# EAGLE library part MPC9804 (library MCP9804)
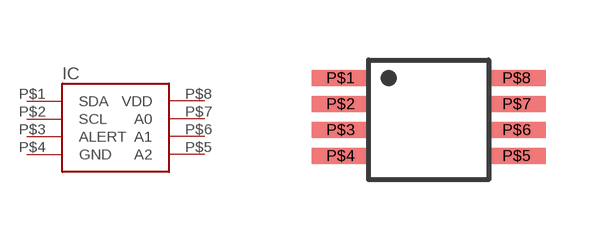
[diagram p0: symbol with the pads of MSOP-8; footprint MSOP-8]

Designator prefix IC

## MPC9804  [MSOP-8]
P$1  SDA
P$2  SCL  out
P$3  ALERT  out
P$4  GND  pwr
P$5  A2  in
P$6  A1  in
P$7  A0  in
P$8  VDD  pwr

## Footprint MSOP-8 (pad centres in mm)
smd 1.45 x 0.4: P$1 -2.2,1.3; P$2 -2.2,0.65; P$3 -2.2,0; P$4 -2.2,-0.65; P$5 2.2,-0.65; P$6 2.2,0; P$7 2.2,0.65; P$8 2.2,1.3